# Altium integrated library Microchip PIC16 Part 2.IntLib: 1569 symbols (part 50 of 56)
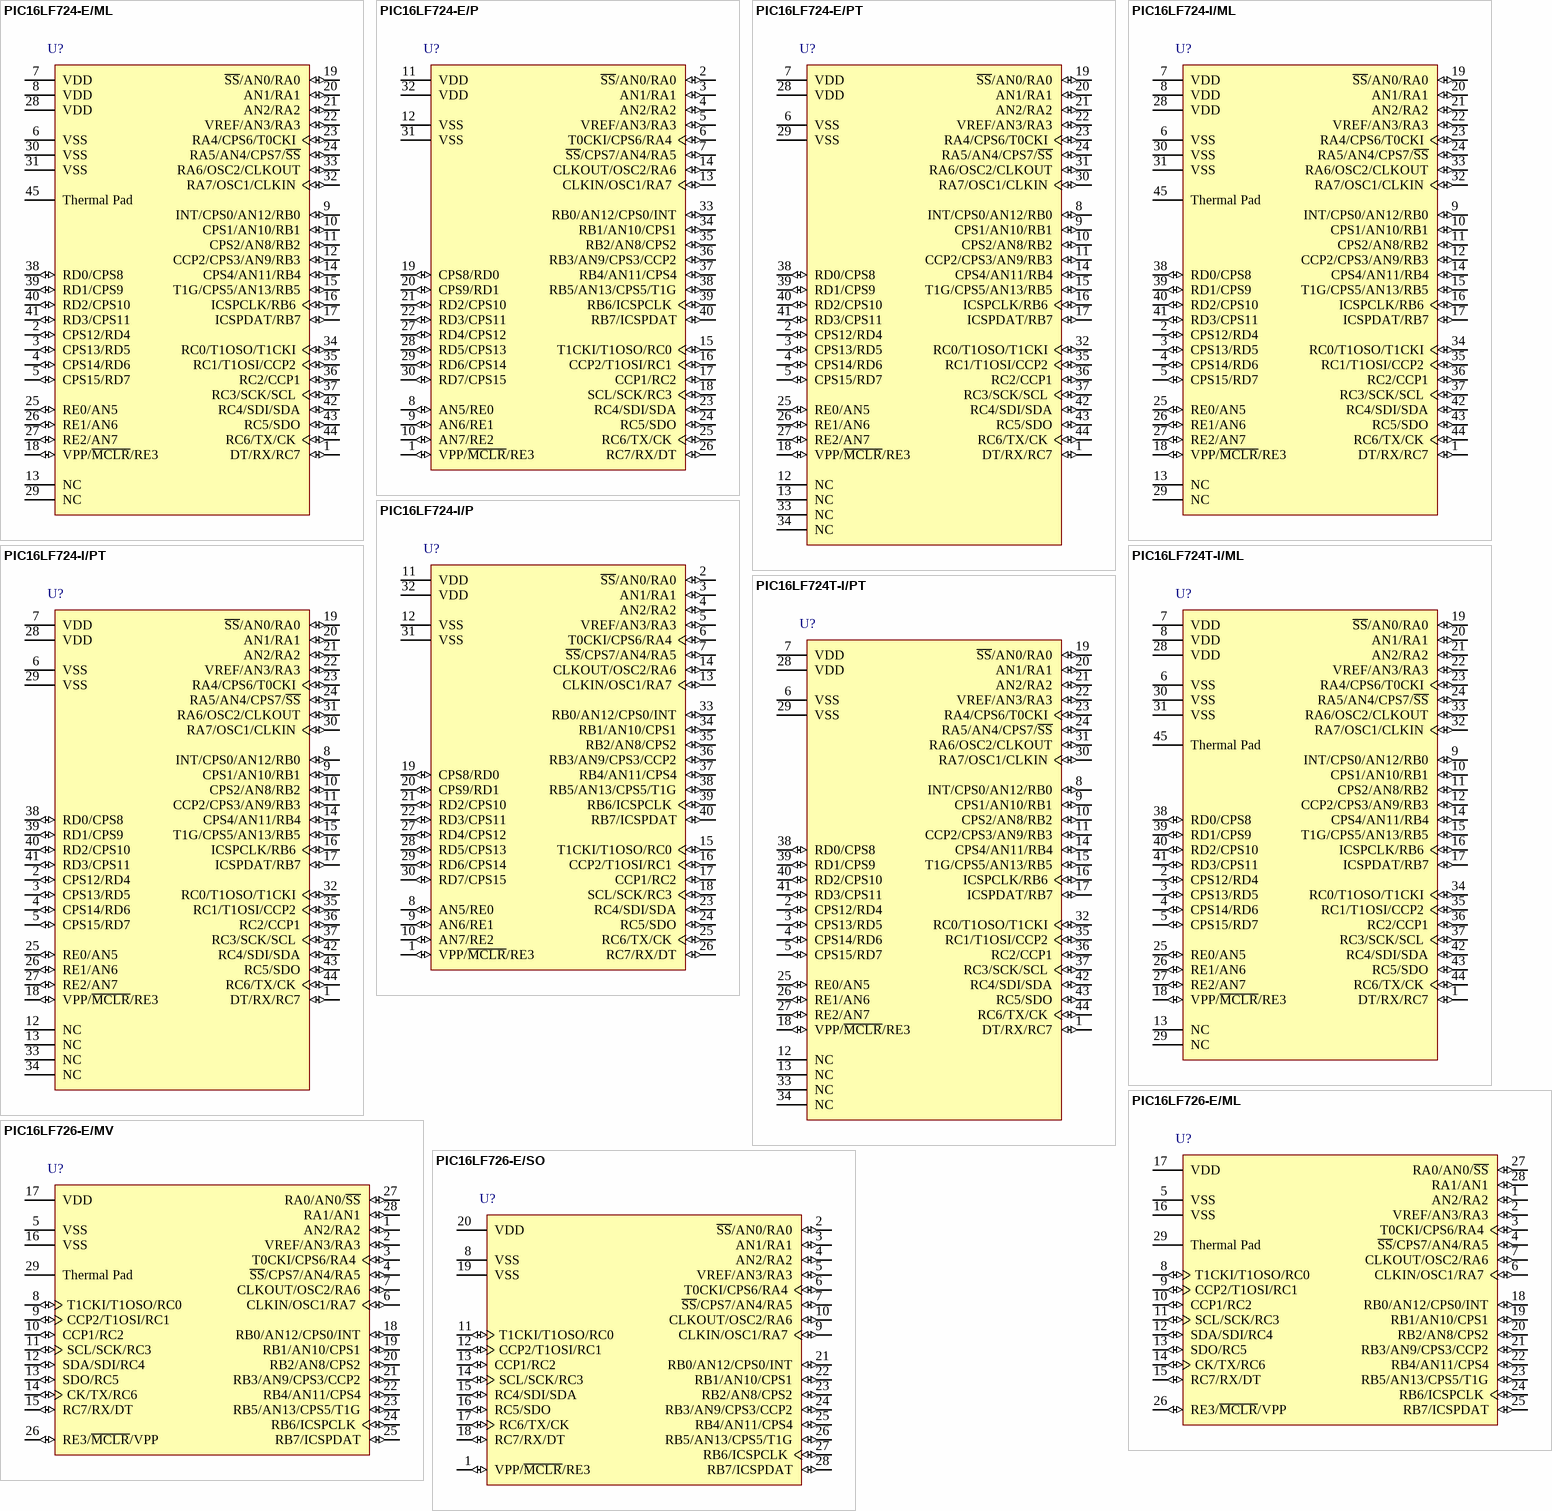
[diagram p174: symbols PIC16LF724-E/ML to PIC16LF726-E/SO]

## PIC16LF724T-I/PT
designator U?
Flash-Based, 8-Bit CMOS Microcontroller, 4K (x14-Bit words) Program Memory, 192 Bytes Data Memory, 36 I/O pins, 44-Pin TQFP, Extended VDD Range, Industrial Temperature, Tape and Reel; Manufacturer: Microchip; PartNumber: PIC16LF724T-I/PT; DatasheetVersion: revE, Oct-2009; PackageVersion: revBB, Aug-2009; PackageReference: TQFP-PT44; PackageDescription: 44-Lead Plastic Thin Quad Flatpack (PT) - 10x10x1mm Body, 2.00mm [TQFP]; Supplier 1: Digi-Key; Supplier Part Number 1: PIC16LF724T-I/PT-ND; Supplier 2: Mouser; Supplier Part Number 2: 579-PIC16LF724T-I/PT; Code_JEDEC: MS-026; ComponentLink1Description: Manufacturer URL; ComponentLink1URL: http://www.microchip.com/; ComponentLink2Description: Datasheet; ComponentLink2URL: http://ww1.microchip.com/downloads/en/DeviceDoc/41341E.pdf; ComponentLink3Description: Package Specification; ComponentLink3URL: http://www.microchip.com/stellent/groups/techpub_sg/documents/packagingspec/en012702.pdf
footprint TQFP-PT44_N (Thin QFP, 44-Leads, Body 10x10mm, Pitch 0.8mm, IPC Medium Density)
footprint TQFP-PT44_L (Thin QFP, 44-Leads, Body 10x10mm, Pitch 0.8mm, IPC High Density)
footprint TQFP-PT44_M (Thin QFP, 44-Leads, Body 10x10mm, Pitch 0.8mm, IPC Low Density)
pins: 1 DT/RX/RC7 (io), 2 CPS12/RD4 (io), 3 CPS13/RD5 (io), 4 CPS14/RD6 (io), 5 CPS15/RD7 (io), 6 VSS (power), 7 VDD (power), 8 INT/CPS0/AN12/RB0 (io), 9 CPS1/AN10/RB1 (io), 10 CPS2/AN8/RB2 (io), 11 CCP2/CPS3/AN9/RB3 (io), 12 NC, 13 NC, 14 CPS4/AN11/RB4 (io), 15 T1G/CPS5/AN13/RB5 (io), 16 ICSPCLK/RB6 (io), 17 ICSPDAT/RB7 (io), 18 VPP/~{MCLR}/RE3 (io), 19 ~{SS}/AN0/RA0 (io), 20 AN1/RA1 (io), 21 AN2/RA2 (io), 22 VREF/AN3/RA3 (io), 23 RA4/CPS6/T0CKI (io), 24 RA5/AN4/CPS7/~{SS} (io), 25 RE0/AN5 (io), 26 RE1/AN6 (io), 27 RE2/AN7 (io), 28 VDD (power), 29 VSS (power), 30 RA7/OSC1/CLKIN (io), 31 RA6/OSC2/CLKOUT (io), 32 RC0/T1OSO/T1CKI (io), 33 NC, 34 NC, 35 RC1/T1OSI/CCP2 (io), 36 RC2/CCP1 (io), 37 RC3/SCK/SCL (io), 38 RD0/CPS8 (io), 39 RD1/CPS9 (io), 40 RD2/CPS10 (io), 41 RD3/CPS11 (io), 42 RC4/SDI/SDA (io), 43 RC5/SDO (io), 44 RC6/TX/CK (io)

## PIC16LF726-E/ML
designator U?
Flash-Based, 8-Bit CMOS Microcontroller, 8K (x14-Bit words) Program Memory, 368 Bytes Data Memory, 25 I/O pins, 28-Pin QFN, Extended VDD Range, Extended Temperature; Manufacturer: Microchip; PartNumber: PIC16LF726-E/ML; DatasheetVersion: revE, Oct-2009; PackageVersion: revBB, Aug-2009; PackageReference: QFN-ML28; PackageDescription: 28-Lead Plastic Quad Flat, No Lead Package (ML) - 6x6 mm Body [QFN] with 0.55 mm Contact Length; Supplier 1: Digi-Key; Supplier Part Number 1: PIC16LF726-E/ML-ND; Supplier 2: Mouser; Supplier Part Number 2: 579-PIC16LF726-E/ML; Code_JEDEC: MO-220; ComponentLink1Description: Manufacturer URL; ComponentLink1URL: http://www.microchip.com/; ComponentLink2Description: Datasheet; ComponentLink2URL: http://ww1.microchip.com/downloads/en/DeviceDoc/41341E.pdf; ComponentLink3Description: Package Specification; ComponentLink3URL: http://www.microchip.com/stellent/groups/techpub_sg/documents/packagingspec/en012702.pdf
footprint QFN-ML28_N (QFN, 28-Leads, Body 6x6mm, Pitch 0.65mm, Thermal Pad 4.2x4.2mm, IPC Medium Density)
footprint QFN-ML28_L (QFN, 28-Leads, Body 6x6mm, Pitch 0.65mm, Thermal Pad 4.2x4.2mm, IPC High Density)
footprint QFN-ML28_M (QFN, 28-Leads, Body 6x6mm, Pitch 0.65mm, Thermal Pad 4.2x4.2mm, IPC Low Density)
pins: 1 AN2/RA2 (io), 2 VREF/AN3/RA3 (io), 3 T0CKI/CPS6/RA4 (io), 4 ~{SS}/CPS7/AN4/RA5 (io), 5 VSS (power), 6 CLKIN/OSC1/RA7 (io), 7 CLKOUT/OSC2/RA6 (io), 8 T1CKI/T1OSO/RC0 (io), 9 CCP2/T1OSI/RC1 (io), 10 CCP1/RC2 (io), 11 SCL/SCK/RC3 (io), 12 SDA/SDI/RC4 (io), 13 SDO/RC5 (io), 14 CK/TX/RC6 (io), 15 RC7/RX/DT (io), 16 VSS (power), 17 VDD (power), 18 RB0/AN12/CPS0/INT (io), 19 RB1/AN10/CPS1 (io), 20 RB2/AN8/CPS2 (io), 21 RB3/AN9/CPS3/CCP2 (io), 22 RB4/AN11/CPS4 (io), 23 RB5/AN13/CPS5/T1G (io), 24 RB6/ICSPCLK (io), 25 RB7/ICSPDAT (io), 26 RE3/~{MCLR}/VPP (io), 27 RA0/AN0/~{SS} (io), 28 RA1/AN1 (io), 29 Thermal Pad

## PIC16LF726-E/MV
designator U?
Flash-Based, 8-Bit CMOS Microcontroller, 8K (x14-Bit words) Program Memory, 368 Bytes Data Memory, 25 I/O pins, 28-Pin UQFN, Extended VDD Range, Extended Temperature; Manufacturer: Microchip; PartNumber: PIC16LF726-E/MV; DatasheetVersion: revE, Oct-2009; PackageVersion: revBB, Aug-2009; PackageReference: UQFN-MV28; PackageDescription: 28-Lead Plastic Ultra Thin Quad Flat, No Lead Package (MV) - 4x4x0.5 mm Body [UQFN]; ComponentLink1Description: Manufacturer URL; ComponentLink1URL: http://www.microchip.com/; ComponentLink2Description: Datasheet; ComponentLink2URL: http://ww1.microchip.com/downloads/en/DeviceDoc/41341E.pdf; ComponentLink3Description: Package Specification; ComponentLink3URL: http://www.microchip.com/stellent/groups/techpub_sg/documents/packagingspec/en012702.pdf
footprint UQFN-MV28_N (QFN, 28-Leads, Body 4x4mm, Pitch 0.4mm, Thermal Pad 2.7x2.7mm, IPC Medium Density)
footprint UQFN-MV28_L (QFN, 28-Leads, Body 4x4mm, Pitch 0.4mm, Thermal Pad 2.7x2.7mm, IPC High Density)
footprint UQFN-MV28_M (QFN, 28-Leads, Body 4x4mm, Pitch 0.4mm, Thermal Pad 2.7x2.7mm, IPC Low Density)
pins: 1 AN2/RA2 (io), 2 VREF/AN3/RA3 (io), 3 T0CKI/CPS6/RA4 (io), 4 ~{SS}/CPS7/AN4/RA5 (io), 5 VSS (power), 6 CLKIN/OSC1/RA7 (io), 7 CLKOUT/OSC2/RA6 (io), 8 T1CKI/T1OSO/RC0 (io), 9 CCP2/T1OSI/RC1 (io), 10 CCP1/RC2 (io), 11 SCL/SCK/RC3 (io), 12 SDA/SDI/RC4 (io), 13 SDO/RC5 (io), 14 CK/TX/RC6 (io), 15 RC7/RX/DT (io), 16 VSS (power), 17 VDD (power), 18 RB0/AN12/CPS0/INT (io), 19 RB1/AN10/CPS1 (io), 20 RB2/AN8/CPS2 (io), 21 RB3/AN9/CPS3/CCP2 (io), 22 RB4/AN11/CPS4 (io), 23 RB5/AN13/CPS5/T1G (io), 24 RB6/ICSPCLK (io), 25 RB7/ICSPDAT (io), 26 RE3/~{MCLR}/VPP (io), 27 RA0/AN0/~{SS} (io), 28 RA1/AN1 (io), 29 Thermal Pad

## PIC16LF726-E/SO
designator U?
Flash-Based, 8-Bit CMOS Microcontroller, 8K (x14-Bit words) Program Memory, 368 Bytes Data Memory, 25 I/O pins, 28-Pin SOIC, Extended VDD Range, Extended Temperature; Manufacturer: Microchip; PartNumber: PIC16LF726-E/SO; DatasheetVersion: revE, Oct-2009; PackageVersion: revBB, Aug-2009; PackageReference: SOIC-SO28; PackageDescription: 28-Lead Plastic Small Outline (SO) - Wide 7.50mm Body [SOIC]; Supplier 1: Digi-Key; Supplier Part Number 1: PIC16LF726-E/SO-ND; Supplier 2: Mouser; Supplier Part Number 2: 579-PIC16LF726-E/SO; Code_JEDEC: MS-013; ComponentLink1Description: Manufacturer URL; ComponentLink1URL: http://www.microchip.com/; ComponentLink2Description: Datasheet; ComponentLink2URL: http://ww1.microchip.com/downloads/en/DeviceDoc/41341E.pdf; ComponentLink3Description: Package Specification; ComponentLink3URL: http://www.microchip.com/stellent/groups/techpub_sg/documents/packagingspec/en012702.pdf
footprint SOIC-SO28_N (SOIC, 28-Leads, Body 17.9x7.5mm, Pitch 1.27mm, IPC Medium Density)
footprint SOIC-SO28_L (SOIC, 28-Leads, Body 17.9x7.5mm, Pitch 1.27mm, IPC High Density)
footprint SOIC-SO28_M (SOIC, 28-Leads, Body 17.9x7.5mm, Pitch 1.27mm, IPC Low Density)
pins: 1 VPP/~{MCLR}/RE3 (io), 2 ~{SS}/AN0/RA0 (io), 3 AN1/RA1 (io), 4 AN2/RA2 (io), 5 VREF/AN3/RA3 (io), 6 T0CKI/CPS6/RA4 (io), 7 ~{SS}/CPS7/AN4/RA5 (io), 8 VSS (power), 9 CLKIN/OSC1/RA7 (io), 10 CLKOUT/OSC2/RA6 (io), 11 T1CKI/T1OSO/RC0 (io), 12 CCP2/T1OSI/RC1 (io), 13 CCP1/RC2 (io), 14 SCL/SCK/RC3 (io), 15 RC4/SDI/SDA (io), 16 RC5/SDO (io), 17 RC6/TX/CK (io), 18 RC7/RX/DT (io), 19 VSS (power), 20 VDD (power), 21 RB0/AN12/CPS0/INT (io), 22 RB1/AN10/CPS1 (io), 23 RB2/AN8/CPS2 (io), 24 RB3/AN9/CPS3/CCP2 (io), 25 RB4/AN11/CPS4 (io), 26 RB5/AN13/CPS5/T1G (io), 27 RB6/ICSPCLK (io), 28 RB7/ICSPDAT (io)

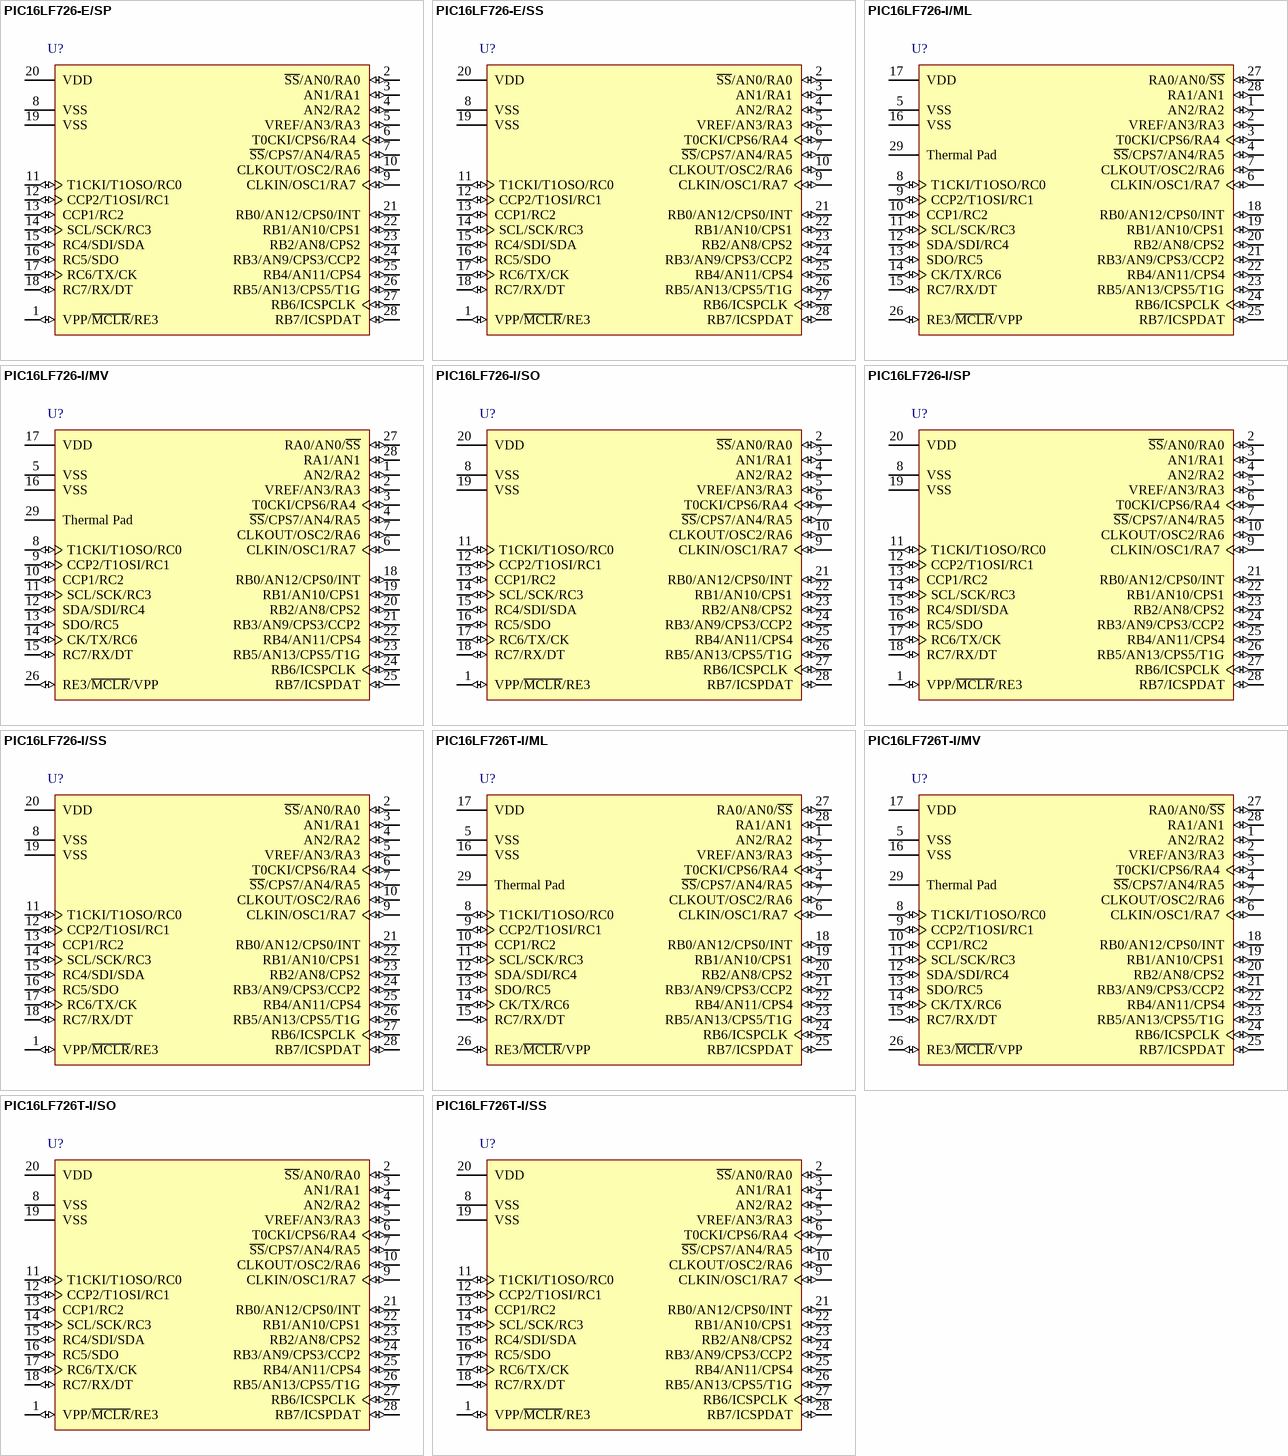
[diagram p107: symbols PIC16LF726-E/SP to PIC16LF726T-I/SS]

## PIC16LF726-E/SP
designator U?
Flash-Based, 8-Bit CMOS Microcontroller, 8K (x14-Bit words) Program Memory, 368 Bytes Data Memory, 25 I/O pins, 28-Pin SPDIP, Extended VDD Range, Extended Temperature; Manufacturer: Microchip; PartNumber: PIC16LF726-E/SP; DatasheetVersion: revE, Oct-2009; PackageVersion: revBB, Aug-2009; PackageReference: SPDIP300-SP28; PackageDescription: 28-Lead Skinny Plastic Dual In-Line (SP) - 300 mil Body [SPDIP]; Supplier 1: Digi-Key; Supplier Part Number 1: PIC16LF726-E/SP-ND; Supplier 2: Mouser; Supplier Part Number 2: 579-PIC16LF726-E/SP; ComponentLink1Description: Manufacturer URL; ComponentLink1URL: http://www.microchip.com/; ComponentLink2Description: Datasheet; ComponentLink2URL: http://ww1.microchip.com/downloads/en/DeviceDoc/41341E.pdf; ComponentLink3Description: Package Specification; ComponentLink3URL: http://www.microchip.com/stellent/groups/techpub_sg/documents/packagingspec/en012702.pdf
footprint SPDIP300-SP28 (DIP, 28-Leads, Row Spacing 7.62mm, Pitch 2.54mm, Body 34.9x6.8mm)
pins: 1 VPP/~{MCLR}/RE3 (io), 2 ~{SS}/AN0/RA0 (io), 3 AN1/RA1 (io), 4 AN2/RA2 (io), 5 VREF/AN3/RA3 (io), 6 T0CKI/CPS6/RA4 (io), 7 ~{SS}/CPS7/AN4/RA5 (io), 8 VSS (power), 9 CLKIN/OSC1/RA7 (io), 10 CLKOUT/OSC2/RA6 (io), 11 T1CKI/T1OSO/RC0 (io), 12 CCP2/T1OSI/RC1 (io), 13 CCP1/RC2 (io), 14 SCL/SCK/RC3 (io), 15 RC4/SDI/SDA (io), 16 RC5/SDO (io), 17 RC6/TX/CK (io), 18 RC7/RX/DT (io), 19 VSS (power), 20 VDD (power), 21 RB0/AN12/CPS0/INT (io), 22 RB1/AN10/CPS1 (io), 23 RB2/AN8/CPS2 (io), 24 RB3/AN9/CPS3/CCP2 (io), 25 RB4/AN11/CPS4 (io), 26 RB5/AN13/CPS5/T1G (io), 27 RB6/ICSPCLK (io), 28 RB7/ICSPDAT (io)

## PIC16LF726-E/SS
designator U?
Flash-Based, 8-Bit CMOS Microcontroller, 8K (x14-Bit words) Program Memory, 368 Bytes Data Memory, 25 I/O pins, 28-Pin SSOP, Extended VDD Range, Extended Temperature; Manufacturer: Microchip; PartNumber: PIC16LF726-E/SS; DatasheetVersion: revE, Oct-2009; PackageVersion: revBB, Aug-2009; PackageReference: SSOP-SS28; PackageDescription: 28-Lead Plastic Shrink Small Outline (SS) - 5.3mm Body [SSOP]; Supplier 1: Digi-Key; Supplier Part Number 1: PIC16LF726-E/SS-ND; Supplier 2: Mouser; Supplier Part Number 2: 579-PIC16LF726-E/SS; Code_JEDEC: MS-150; ComponentLink1Description: Manufacturer URL; ComponentLink1URL: http://www.microchip.com/; ComponentLink2Description: Datasheet; ComponentLink2URL: http://ww1.microchip.com/downloads/en/DeviceDoc/41341E.pdf; ComponentLink3Description: Package Specification; ComponentLink3URL: http://www.microchip.com/stellent/groups/techpub_sg/documents/packagingspec/en012702.pdf
footprint SSOP-SS28_N (SOP, 28-Leads, Body 10.2x5.2mm, Pitch 0.65mm, IPC Medium Density)
footprint SSOP-SS28_L (SOP, 28-Leads, Body 10.2x5.2mm, Pitch 0.65mm, IPC High Density)
footprint SSOP-SS28_M (SOP, 28-Leads, Body 10.2x5.2mm, Pitch 0.65mm, IPC Low Density)
pins: 1 VPP/~{MCLR}/RE3 (io), 2 ~{SS}/AN0/RA0 (io), 3 AN1/RA1 (io), 4 AN2/RA2 (io), 5 VREF/AN3/RA3 (io), 6 T0CKI/CPS6/RA4 (io), 7 ~{SS}/CPS7/AN4/RA5 (io), 8 VSS (power), 9 CLKIN/OSC1/RA7 (io), 10 CLKOUT/OSC2/RA6 (io), 11 T1CKI/T1OSO/RC0 (io), 12 CCP2/T1OSI/RC1 (io), 13 CCP1/RC2 (io), 14 SCL/SCK/RC3 (io), 15 RC4/SDI/SDA (io), 16 RC5/SDO (io), 17 RC6/TX/CK (io), 18 RC7/RX/DT (io), 19 VSS (power), 20 VDD (power), 21 RB0/AN12/CPS0/INT (io), 22 RB1/AN10/CPS1 (io), 23 RB2/AN8/CPS2 (io), 24 RB3/AN9/CPS3/CCP2 (io), 25 RB4/AN11/CPS4 (io), 26 RB5/AN13/CPS5/T1G (io), 27 RB6/ICSPCLK (io), 28 RB7/ICSPDAT (io)

## PIC16LF726-I/ML
designator U?
Flash-Based, 8-Bit CMOS Microcontroller, 8K (x14-Bit words) Program Memory, 368 Bytes Data Memory, 25 I/O pins, 28-Pin QFN, Extended VDD Range, Industrial Temperature; Manufacturer: Microchip; PartNumber: PIC16LF726-I/ML; DatasheetVersion: revE, Oct-2009; PackageVersion: revBB, Aug-2009; PackageReference: QFN-ML28; PackageDescription: 28-Lead Plastic Quad Flat, No Lead Package (ML) - 6x6 mm Body [QFN] with 0.55 mm Contact Length; Supplier 1: Digi-Key; Supplier Part Number 1: PIC16LF726-I/ML-ND; Supplier 2: Farnell; Supplier Part Number 2: 1770678; Supplier 3: Mouser; Supplier Part Number 3: 579-PIC16LF726-I/ML; Code_JEDEC: MO-220; ComponentLink1Description: Manufacturer URL; ComponentLink1URL: http://www.microchip.com/; ComponentLink2Description: Datasheet; ComponentLink2URL: http://ww1.microchip.com/downloads/en/DeviceDoc/41341E.pdf; ComponentLink3Description: Package Specification; ComponentLink3URL: http://www.microchip.com/stellent/groups/techpub_sg/documents/packagingspec/en012702.pdf
footprint QFN-ML28_N (QFN, 28-Leads, Body 6x6mm, Pitch 0.65mm, Thermal Pad 4.2x4.2mm, IPC Medium Density)
footprint QFN-ML28_L (QFN, 28-Leads, Body 6x6mm, Pitch 0.65mm, Thermal Pad 4.2x4.2mm, IPC High Density)
footprint QFN-ML28_M (QFN, 28-Leads, Body 6x6mm, Pitch 0.65mm, Thermal Pad 4.2x4.2mm, IPC Low Density)
pins: 1 AN2/RA2 (io), 2 VREF/AN3/RA3 (io), 3 T0CKI/CPS6/RA4 (io), 4 ~{SS}/CPS7/AN4/RA5 (io), 5 VSS (power), 6 CLKIN/OSC1/RA7 (io), 7 CLKOUT/OSC2/RA6 (io), 8 T1CKI/T1OSO/RC0 (io), 9 CCP2/T1OSI/RC1 (io), 10 CCP1/RC2 (io), 11 SCL/SCK/RC3 (io), 12 SDA/SDI/RC4 (io), 13 SDO/RC5 (io), 14 CK/TX/RC6 (io), 15 RC7/RX/DT (io), 16 VSS (power), 17 VDD (power), 18 RB0/AN12/CPS0/INT (io), 19 RB1/AN10/CPS1 (io), 20 RB2/AN8/CPS2 (io), 21 RB3/AN9/CPS3/CCP2 (io), 22 RB4/AN11/CPS4 (io), 23 RB5/AN13/CPS5/T1G (io), 24 RB6/ICSPCLK (io), 25 RB7/ICSPDAT (io), 26 RE3/~{MCLR}/VPP (io), 27 RA0/AN0/~{SS} (io), 28 RA1/AN1 (io), 29 Thermal Pad

## PIC16LF726-I/MV
designator U?
Flash-Based, 8-Bit CMOS Microcontroller, 8K (x14-Bit words) Program Memory, 368 Bytes Data Memory, 25 I/O pins, 28-Pin UQFN, Extended VDD Range, Industrial Temperature; Manufacturer: Microchip; PartNumber: PIC16LF726-I/MV; DatasheetVersion: revE, Oct-2009; PackageVersion: revBB, Aug-2009; PackageReference: UQFN-MV28; PackageDescription: 28-Lead Plastic Ultra Thin Quad Flat, No Lead Package (MV) - 4x4x0.5 mm Body [UQFN]; ComponentLink1Description: Manufacturer URL; ComponentLink1URL: http://www.microchip.com/; ComponentLink2Description: Datasheet; ComponentLink2URL: http://ww1.microchip.com/downloads/en/DeviceDoc/41341E.pdf; ComponentLink3Description: Package Specification; ComponentLink3URL: http://www.microchip.com/stellent/groups/techpub_sg/documents/packagingspec/en012702.pdf
footprint UQFN-MV28_N (QFN, 28-Leads, Body 4x4mm, Pitch 0.4mm, Thermal Pad 2.7x2.7mm, IPC Medium Density)
footprint UQFN-MV28_L (QFN, 28-Leads, Body 4x4mm, Pitch 0.4mm, Thermal Pad 2.7x2.7mm, IPC High Density)
footprint UQFN-MV28_M (QFN, 28-Leads, Body 4x4mm, Pitch 0.4mm, Thermal Pad 2.7x2.7mm, IPC Low Density)
pins: 1 AN2/RA2 (io), 2 VREF/AN3/RA3 (io), 3 T0CKI/CPS6/RA4 (io), 4 ~{SS}/CPS7/AN4/RA5 (io), 5 VSS (power), 6 CLKIN/OSC1/RA7 (io), 7 CLKOUT/OSC2/RA6 (io), 8 T1CKI/T1OSO/RC0 (io), 9 CCP2/T1OSI/RC1 (io), 10 CCP1/RC2 (io), 11 SCL/SCK/RC3 (io), 12 SDA/SDI/RC4 (io), 13 SDO/RC5 (io), 14 CK/TX/RC6 (io), 15 RC7/RX/DT (io), 16 VSS (power), 17 VDD (power), 18 RB0/AN12/CPS0/INT (io), 19 RB1/AN10/CPS1 (io), 20 RB2/AN8/CPS2 (io), 21 RB3/AN9/CPS3/CCP2 (io), 22 RB4/AN11/CPS4 (io), 23 RB5/AN13/CPS5/T1G (io), 24 RB6/ICSPCLK (io), 25 RB7/ICSPDAT (io), 26 RE3/~{MCLR}/VPP (io), 27 RA0/AN0/~{SS} (io), 28 RA1/AN1 (io), 29 Thermal Pad

## PIC16LF726-I/SO
designator U?
Flash-Based, 8-Bit CMOS Microcontroller, 8K (x14-Bit words) Program Memory, 368 Bytes Data Memory, 25 I/O pins, 28-Pin SOIC, Extended VDD Range, Industrial Temperature; Manufacturer: Microchip; PartNumber: PIC16LF726-I/SO; DatasheetVersion: revE, Oct-2009; PackageVersion: revBB, Aug-2009; PackageReference: SOIC-SO28; PackageDescription: 28-Lead Plastic Small Outline (SO) - Wide 7.50mm Body [SOIC]; Supplier 1: Digi-Key; Supplier Part Number 1: PIC16LF726-I/SO-ND; Supplier 2: Farnell; Supplier Part Number 2: 1770679; Supplier 3: Newark; Supplier Part Number 3: 07P9645; Supplier 4: Mouser; Supplier Part Number 4: 579-PIC16LF726-I/SO; Code_JEDEC: MS-013; ComponentLink1Description: Manufacturer URL; ComponentLink1URL: http://www.microchip.com/; ComponentLink2Description: Datasheet; ComponentLink2URL: http://ww1.microchip.com/downloads/en/DeviceDoc/41341E.pdf; ComponentLink3Description: Package Specification; ComponentLink3URL: http://www.microchip.com/stellent/groups/techpub_sg/documents/packagingspec/en012702.pdf
footprint SOIC-SO28_N (SOIC, 28-Leads, Body 17.9x7.5mm, Pitch 1.27mm, IPC Medium Density)
footprint SOIC-SO28_L (SOIC, 28-Leads, Body 17.9x7.5mm, Pitch 1.27mm, IPC High Density)
footprint SOIC-SO28_M (SOIC, 28-Leads, Body 17.9x7.5mm, Pitch 1.27mm, IPC Low Density)
pins: 1 VPP/~{MCLR}/RE3 (io), 2 ~{SS}/AN0/RA0 (io), 3 AN1/RA1 (io), 4 AN2/RA2 (io), 5 VREF/AN3/RA3 (io), 6 T0CKI/CPS6/RA4 (io), 7 ~{SS}/CPS7/AN4/RA5 (io), 8 VSS (power), 9 CLKIN/OSC1/RA7 (io), 10 CLKOUT/OSC2/RA6 (io), 11 T1CKI/T1OSO/RC0 (io), 12 CCP2/T1OSI/RC1 (io), 13 CCP1/RC2 (io), 14 SCL/SCK/RC3 (io), 15 RC4/SDI/SDA (io), 16 RC5/SDO (io), 17 RC6/TX/CK (io), 18 RC7/RX/DT (io), 19 VSS (power), 20 VDD (power), 21 RB0/AN12/CPS0/INT (io), 22 RB1/AN10/CPS1 (io), 23 RB2/AN8/CPS2 (io), 24 RB3/AN9/CPS3/CCP2 (io), 25 RB4/AN11/CPS4 (io), 26 RB5/AN13/CPS5/T1G (io), 27 RB6/ICSPCLK (io), 28 RB7/ICSPDAT (io)

## PIC16LF726-I/SP
designator U?
Flash-Based, 8-Bit CMOS Microcontroller, 8K (x14-Bit words) Program Memory, 368 Bytes Data Memory, 25 I/O pins, 28-Pin SPDIP, Extended VDD Range, Industrial Temperature; Manufacturer: Microchip; PartNumber: PIC16LF726-I/SP; DatasheetVersion: revE, Oct-2009; PackageVersion: revBB, Aug-2009; PackageReference: SPDIP300-SP28; PackageDescription: 28-Lead Skinny Plastic Dual In-Line (SP) - 300 mil Body [SPDIP]; Supplier 1: Digi-Key; Supplier Part Number 1: PIC16LF726-I/SP-ND; Supplier 2: Newark; Supplier Part Number 2: 07P9646; Supplier 3: Mouser; Supplier Part Number 3: 579-PIC16LF726-I/SP; ComponentLink1Description: Manufacturer URL; ComponentLink1URL: http://www.microchip.com/; ComponentLink2Description: Datasheet; ComponentLink2URL: http://ww1.microchip.com/downloads/en/DeviceDoc/41341E.pdf; ComponentLink3Description: Package Specification; ComponentLink3URL: http://www.microchip.com/stellent/groups/techpub_sg/documents/packagingspec/en012702.pdf
footprint SPDIP300-SP28 (DIP, 28-Leads, Row Spacing 7.62mm, Pitch 2.54mm, Body 34.9x6.8mm)
pins: 1 VPP/~{MCLR}/RE3 (io), 2 ~{SS}/AN0/RA0 (io), 3 AN1/RA1 (io), 4 AN2/RA2 (io), 5 VREF/AN3/RA3 (io), 6 T0CKI/CPS6/RA4 (io), 7 ~{SS}/CPS7/AN4/RA5 (io), 8 VSS (power), 9 CLKIN/OSC1/RA7 (io), 10 CLKOUT/OSC2/RA6 (io), 11 T1CKI/T1OSO/RC0 (io), 12 CCP2/T1OSI/RC1 (io), 13 CCP1/RC2 (io), 14 SCL/SCK/RC3 (io), 15 RC4/SDI/SDA (io), 16 RC5/SDO (io), 17 RC6/TX/CK (io), 18 RC7/RX/DT (io), 19 VSS (power), 20 VDD (power), 21 RB0/AN12/CPS0/INT (io), 22 RB1/AN10/CPS1 (io), 23 RB2/AN8/CPS2 (io), 24 RB3/AN9/CPS3/CCP2 (io), 25 RB4/AN11/CPS4 (io), 26 RB5/AN13/CPS5/T1G (io), 27 RB6/ICSPCLK (io), 28 RB7/ICSPDAT (io)

## PIC16LF726-I/SS
designator U?
Flash-Based, 8-Bit CMOS Microcontroller, 8K (x14-Bit words) Program Memory, 368 Bytes Data Memory, 25 I/O pins, 28-Pin SSOP, Extended VDD Range, Industrial Temperature; Manufacturer: Microchip; PartNumber: PIC16LF726-I/SS; DatasheetVersion: revE, Oct-2009; PackageVersion: revBB, Aug-2009; PackageReference: SSOP-SS28; PackageDescription: 28-Lead Plastic Shrink Small Outline (SS) - 5.3mm Body [SSOP]; Supplier 1: Digi-Key; Supplier Part Number 1: PIC16LF726-I/SS-ND; Supplier 2: Farnell; Supplier Part Number 2: 1659767; Supplier 3: Newark; Supplier Part Number 3: 07P9647; Supplier 4: Mouser; Supplier Part Number 4: 579-PIC16LF726-I/SS; Code_JEDEC: MS-150; ComponentLink1Description: Manufacturer URL; ComponentLink1URL: http://www.microchip.com/; ComponentLink2Description: Datasheet; ComponentLink2URL: http://ww1.microchip.com/downloads/en/DeviceDoc/41341E.pdf; ComponentLink3Description: Package Specification; ComponentLink3URL: http://www.microchip.com/stellent/groups/techpub_sg/documents/packagingspec/en012702.pdf
footprint SSOP-SS28_N (SOP, 28-Leads, Body 10.2x5.2mm, Pitch 0.65mm, IPC Medium Density)
footprint SSOP-SS28_L (SOP, 28-Leads, Body 10.2x5.2mm, Pitch 0.65mm, IPC High Density)
footprint SSOP-SS28_M (SOP, 28-Leads, Body 10.2x5.2mm, Pitch 0.65mm, IPC Low Density)
pins: 1 VPP/~{MCLR}/RE3 (io), 2 ~{SS}/AN0/RA0 (io), 3 AN1/RA1 (io), 4 AN2/RA2 (io), 5 VREF/AN3/RA3 (io), 6 T0CKI/CPS6/RA4 (io), 7 ~{SS}/CPS7/AN4/RA5 (io), 8 VSS (power), 9 CLKIN/OSC1/RA7 (io), 10 CLKOUT/OSC2/RA6 (io), 11 T1CKI/T1OSO/RC0 (io), 12 CCP2/T1OSI/RC1 (io), 13 CCP1/RC2 (io), 14 SCL/SCK/RC3 (io), 15 RC4/SDI/SDA (io), 16 RC5/SDO (io), 17 RC6/TX/CK (io), 18 RC7/RX/DT (io), 19 VSS (power), 20 VDD (power), 21 RB0/AN12/CPS0/INT (io), 22 RB1/AN10/CPS1 (io), 23 RB2/AN8/CPS2 (io), 24 RB3/AN9/CPS3/CCP2 (io), 25 RB4/AN11/CPS4 (io), 26 RB5/AN13/CPS5/T1G (io), 27 RB6/ICSPCLK (io), 28 RB7/ICSPDAT (io)

## PIC16LF726T-I/ML
designator U?
Flash-Based, 8-Bit CMOS Microcontroller, 8K (x14-Bit words) Program Memory, 368 Bytes Data Memory, 25 I/O pins, 28-Pin QFN, Extended VDD Range, Industrial Temperature, Tape and Reel; Manufacturer: Microchip; PartNumber: PIC16LF726T-I/ML; DatasheetVersion: revE, Oct-2009; PackageVersion: revBB, Aug-2009; PackageReference: QFN-ML28; PackageDescription: 28-Lead Plastic Quad Flat, No Lead Package (ML) - 6x6 mm Body [QFN] with 0.55 mm Contact Length; Supplier 1: Digi-Key; Supplier Part Number 1: PIC16LF726T-I/ML-ND; Supplier 2: Mouser; Supplier Part Number 2: 579-PIC16LF726T-I/ML; Code_JEDEC: MO-220; ComponentLink1Description: Manufacturer URL; ComponentLink1URL: http://www.microchip.com/; ComponentLink2Description: Datasheet; ComponentLink2URL: http://ww1.microchip.com/downloads/en/DeviceDoc/41341E.pdf; ComponentLink3Description: Package Specification; ComponentLink3URL: http://www.microchip.com/stellent/groups/techpub_sg/documents/packagingspec/en012702.pdf
footprint QFN-ML28_N (QFN, 28-Leads, Body 6x6mm, Pitch 0.65mm, Thermal Pad 4.2x4.2mm, IPC Medium Density)
footprint QFN-ML28_L (QFN, 28-Leads, Body 6x6mm, Pitch 0.65mm, Thermal Pad 4.2x4.2mm, IPC High Density)
footprint QFN-ML28_M (QFN, 28-Leads, Body 6x6mm, Pitch 0.65mm, Thermal Pad 4.2x4.2mm, IPC Low Density)
pins: 1 AN2/RA2 (io), 2 VREF/AN3/RA3 (io), 3 T0CKI/CPS6/RA4 (io), 4 ~{SS}/CPS7/AN4/RA5 (io), 5 VSS (power), 6 CLKIN/OSC1/RA7 (io), 7 CLKOUT/OSC2/RA6 (io), 8 T1CKI/T1OSO/RC0 (io), 9 CCP2/T1OSI/RC1 (io), 10 CCP1/RC2 (io), 11 SCL/SCK/RC3 (io), 12 SDA/SDI/RC4 (io), 13 SDO/RC5 (io), 14 CK/TX/RC6 (io), 15 RC7/RX/DT (io), 16 VSS (power), 17 VDD (power), 18 RB0/AN12/CPS0/INT (io), 19 RB1/AN10/CPS1 (io), 20 RB2/AN8/CPS2 (io), 21 RB3/AN9/CPS3/CCP2 (io), 22 RB4/AN11/CPS4 (io), 23 RB5/AN13/CPS5/T1G (io), 24 RB6/ICSPCLK (io), 25 RB7/ICSPDAT (io), 26 RE3/~{MCLR}/VPP (io), 27 RA0/AN0/~{SS} (io), 28 RA1/AN1 (io), 29 Thermal Pad

## PIC16LF726T-I/MV
designator U?
Flash-Based, 8-Bit CMOS Microcontroller, 8K (x14-Bit words) Program Memory, 368 Bytes Data Memory, 25 I/O pins, 28-Pin UQFN, Extended VDD Range, Industrial Temperature, Tape and Reel; Manufacturer: Microchip; PartNumber: PIC16LF726T-I/MV; DatasheetVersion: revE, Oct-2009; PackageVersion: revBB, Aug-2009; PackageReference: UQFN-MV28; PackageDescription: 28-Lead Plastic Ultra Thin Quad Flat, No Lead Package (MV) - 4x4x0.5 mm Body [UQFN]; ComponentLink1Description: Manufacturer URL; ComponentLink1URL: http://www.microchip.com/; ComponentLink2Description: Datasheet; ComponentLink2URL: http://ww1.microchip.com/downloads/en/DeviceDoc/41341E.pdf; ComponentLink3Description: Package Specification; ComponentLink3URL: http://www.microchip.com/stellent/groups/techpub_sg/documents/packagingspec/en012702.pdf
footprint UQFN-MV28_N (QFN, 28-Leads, Body 4x4mm, Pitch 0.4mm, Thermal Pad 2.7x2.7mm, IPC Medium Density)
footprint UQFN-MV28_L (QFN, 28-Leads, Body 4x4mm, Pitch 0.4mm, Thermal Pad 2.7x2.7mm, IPC High Density)
footprint UQFN-MV28_M (QFN, 28-Leads, Body 4x4mm, Pitch 0.4mm, Thermal Pad 2.7x2.7mm, IPC Low Density)
pins: 1 AN2/RA2 (io), 2 VREF/AN3/RA3 (io), 3 T0CKI/CPS6/RA4 (io), 4 ~{SS}/CPS7/AN4/RA5 (io), 5 VSS (power), 6 CLKIN/OSC1/RA7 (io), 7 CLKOUT/OSC2/RA6 (io), 8 T1CKI/T1OSO/RC0 (io), 9 CCP2/T1OSI/RC1 (io), 10 CCP1/RC2 (io), 11 SCL/SCK/RC3 (io), 12 SDA/SDI/RC4 (io), 13 SDO/RC5 (io), 14 CK/TX/RC6 (io), 15 RC7/RX/DT (io), 16 VSS (power), 17 VDD (power), 18 RB0/AN12/CPS0/INT (io), 19 RB1/AN10/CPS1 (io), 20 RB2/AN8/CPS2 (io), 21 RB3/AN9/CPS3/CCP2 (io), 22 RB4/AN11/CPS4 (io), 23 RB5/AN13/CPS5/T1G (io), 24 RB6/ICSPCLK (io), 25 RB7/ICSPDAT (io), 26 RE3/~{MCLR}/VPP (io), 27 RA0/AN0/~{SS} (io), 28 RA1/AN1 (io), 29 Thermal Pad

## PIC16LF726T-I/SO
designator U?
Flash-Based, 8-Bit CMOS Microcontroller, 8K (x14-Bit words) Program Memory, 368 Bytes Data Memory, 25 I/O pins, 28-Pin SOIC, Extended VDD Range, Industrial Temperature, Tape and Reel; Manufacturer: Microchip; PartNumber: PIC16LF726T-I/SO; DatasheetVersion: revE, Oct-2009; PackageVersion: revBB, Aug-2009; PackageReference: SOIC-SO28; PackageDescription: 28-Lead Plastic Small Outline (SO) - Wide 7.50mm Body [SOIC]; Supplier 1: Digi-Key; Supplier Part Number 1: PIC16LF726T-I/SO-ND; Supplier 2: Mouser; Supplier Part Number 2: 579-PIC16LF726T-I/SO; Code_JEDEC: MS-013; ComponentLink1Description: Manufacturer URL; ComponentLink1URL: http://www.microchip.com/; ComponentLink2Description: Datasheet; ComponentLink2URL: http://ww1.microchip.com/downloads/en/DeviceDoc/41341E.pdf; ComponentLink3Description: Package Specification; ComponentLink3URL: http://www.microchip.com/stellent/groups/techpub_sg/documents/packagingspec/en012702.pdf
footprint SOIC-SO28_N (SOIC, 28-Leads, Body 17.9x7.5mm, Pitch 1.27mm, IPC Medium Density)
footprint SOIC-SO28_L (SOIC, 28-Leads, Body 17.9x7.5mm, Pitch 1.27mm, IPC High Density)
footprint SOIC-SO28_M (SOIC, 28-Leads, Body 17.9x7.5mm, Pitch 1.27mm, IPC Low Density)
pins: 1 VPP/~{MCLR}/RE3 (io), 2 ~{SS}/AN0/RA0 (io), 3 AN1/RA1 (io), 4 AN2/RA2 (io), 5 VREF/AN3/RA3 (io), 6 T0CKI/CPS6/RA4 (io), 7 ~{SS}/CPS7/AN4/RA5 (io), 8 VSS (power), 9 CLKIN/OSC1/RA7 (io), 10 CLKOUT/OSC2/RA6 (io), 11 T1CKI/T1OSO/RC0 (io), 12 CCP2/T1OSI/RC1 (io), 13 CCP1/RC2 (io), 14 SCL/SCK/RC3 (io), 15 RC4/SDI/SDA (io), 16 RC5/SDO (io), 17 RC6/TX/CK (io), 18 RC7/RX/DT (io), 19 VSS (power), 20 VDD (power), 21 RB0/AN12/CPS0/INT (io), 22 RB1/AN10/CPS1 (io), 23 RB2/AN8/CPS2 (io), 24 RB3/AN9/CPS3/CCP2 (io), 25 RB4/AN11/CPS4 (io), 26 RB5/AN13/CPS5/T1G (io), 27 RB6/ICSPCLK (io), 28 RB7/ICSPDAT (io)

## PIC16LF726T-I/SS
designator U?
Flash-Based, 8-Bit CMOS Microcontroller, 8K (x14-Bit words) Program Memory, 368 Bytes Data Memory, 25 I/O pins, 28-Pin SSOP, Extended VDD Range, Industrial Temperature, Tape and Reel; Manufacturer: Microchip; PartNumber: PIC16LF726T-I/SS; DatasheetVersion: revE, Oct-2009; PackageVersion: revBB, Aug-2009; PackageReference: SSOP-SS28; PackageDescription: 28-Lead Plastic Shrink Small Outline (SS) - 5.3mm Body [SSOP]; Supplier 1: Digi-Key; Supplier Part Number 1: PIC16LF726T-I/SS-ND; Supplier 2: Mouser; Supplier Part Number 2: 579-PIC16LF726T-I/SS; Code_JEDEC: MS-150; ComponentLink1Description: Manufacturer URL; ComponentLink1URL: http://www.microchip.com/; ComponentLink2Description: Datasheet; ComponentLink2URL: http://ww1.microchip.com/downloads/en/DeviceDoc/41341E.pdf; ComponentLink3Description: Package Specification; ComponentLink3URL: http://www.microchip.com/stellent/groups/techpub_sg/documents/packagingspec/en012702.pdf
footprint SSOP-SS28_N (SOP, 28-Leads, Body 10.2x5.2mm, Pitch 0.65mm, IPC Medium Density)
footprint SSOP-SS28_L (SOP, 28-Leads, Body 10.2x5.2mm, Pitch 0.65mm, IPC High Density)
footprint SSOP-SS28_M (SOP, 28-Leads, Body 10.2x5.2mm, Pitch 0.65mm, IPC Low Density)
pins: 1 VPP/~{MCLR}/RE3 (io), 2 ~{SS}/AN0/RA0 (io), 3 AN1/RA1 (io), 4 AN2/RA2 (io), 5 VREF/AN3/RA3 (io), 6 T0CKI/CPS6/RA4 (io), 7 ~{SS}/CPS7/AN4/RA5 (io), 8 VSS (power), 9 CLKIN/OSC1/RA7 (io), 10 CLKOUT/OSC2/RA6 (io), 11 T1CKI/T1OSO/RC0 (io), 12 CCP2/T1OSI/RC1 (io), 13 CCP1/RC2 (io), 14 SCL/SCK/RC3 (io), 15 RC4/SDI/SDA (io), 16 RC5/SDO (io), 17 RC6/TX/CK (io), 18 RC7/RX/DT (io), 19 VSS (power), 20 VDD (power), 21 RB0/AN12/CPS0/INT (io), 22 RB1/AN10/CPS1 (io), 23 RB2/AN8/CPS2 (io), 24 RB3/AN9/CPS3/CCP2 (io), 25 RB4/AN11/CPS4 (io), 26 RB5/AN13/CPS5/T1G (io), 27 RB6/ICSPCLK (io), 28 RB7/ICSPDAT (io)

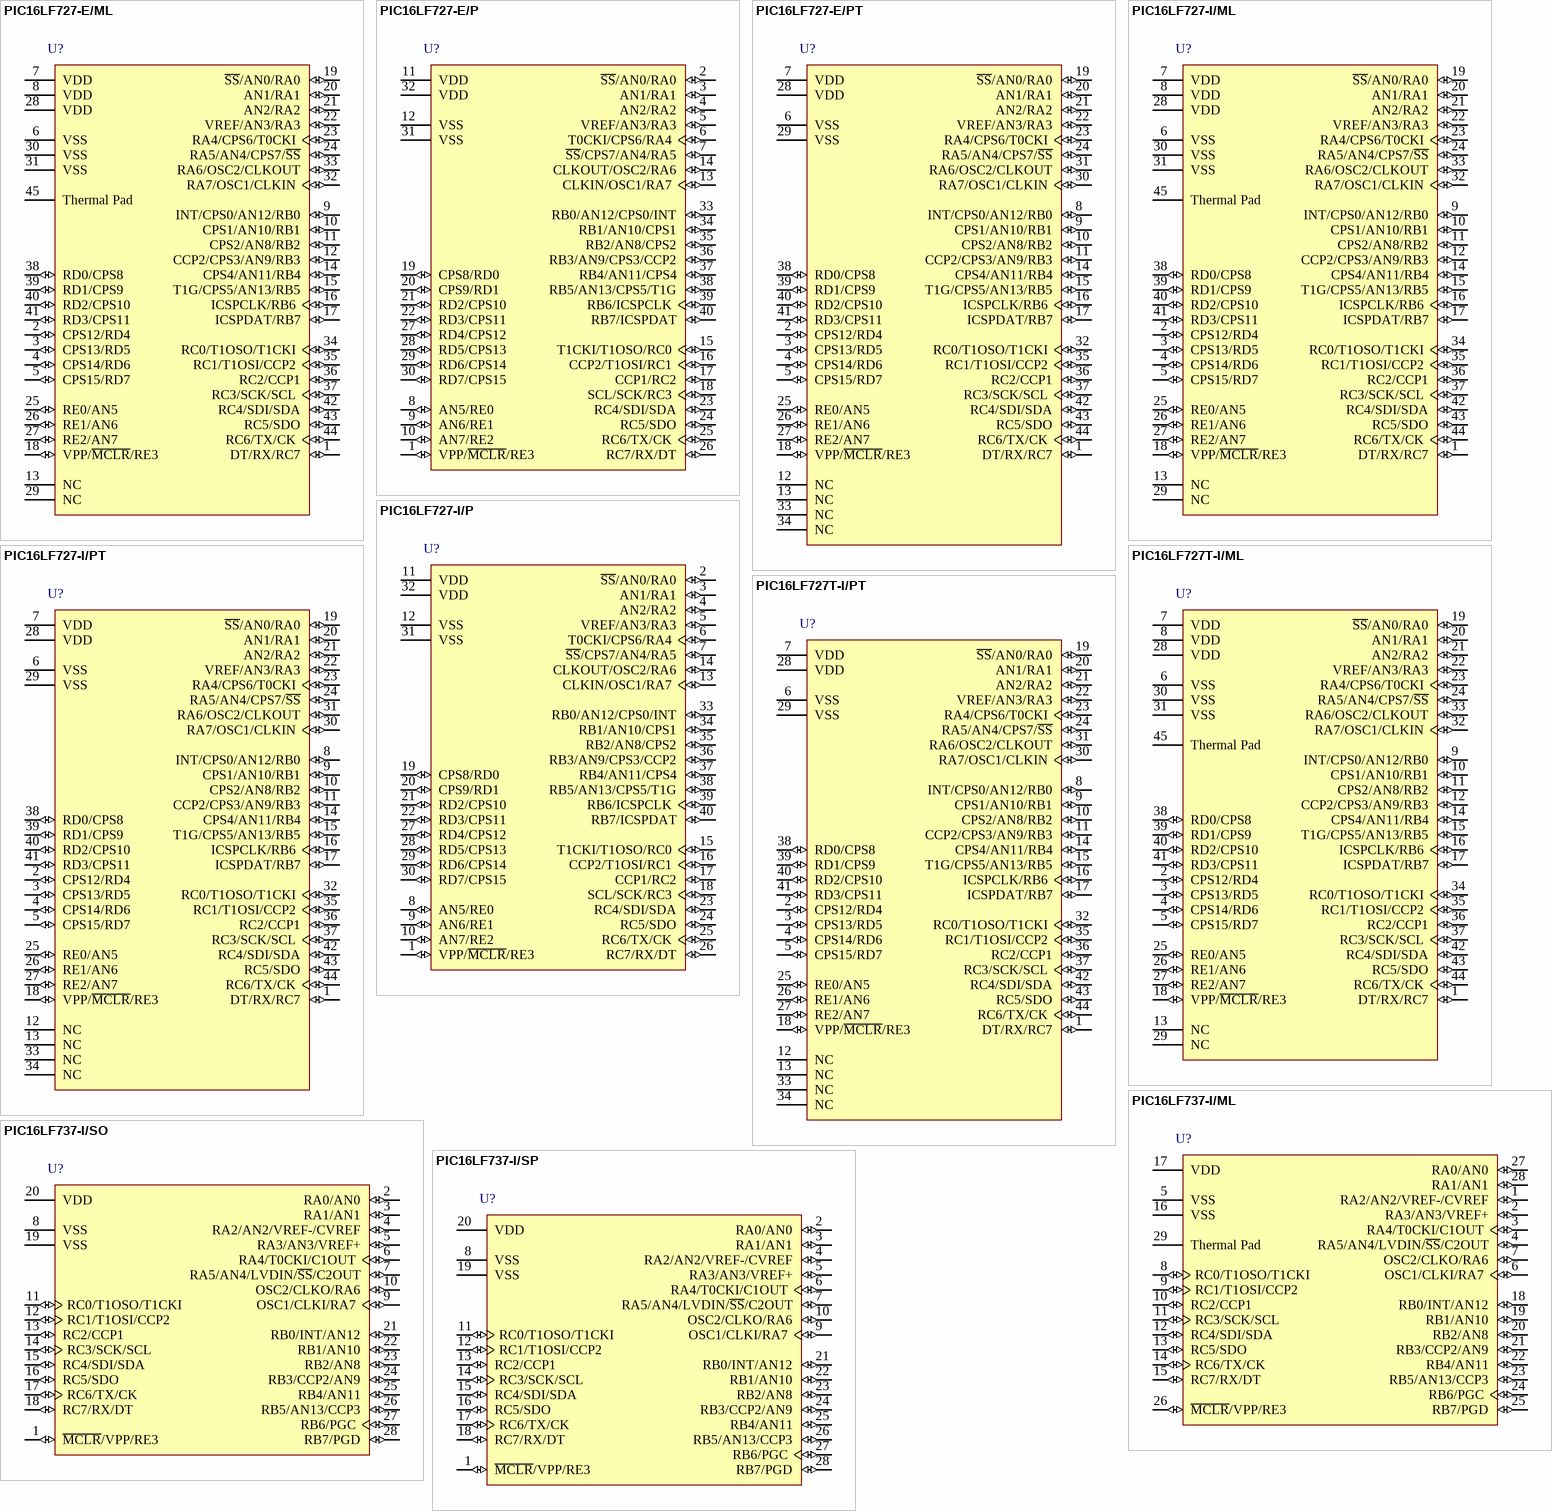
[diagram p108: symbols PIC16LF727-E/ML to PIC16LF737-I/SP]

## PIC16LF727-E/ML
designator U?
Flash-Based, 8-Bit CMOS Microcontroller, 8K (x14-Bit words) Program Memory, 368 Bytes Data Memory, 36 I/O pins, 44-Pin QFN, Extended VDD Range, Extended Temperature; Manufacturer: Microchip; PartNumber: PIC16LF727-E/ML; DatasheetVersion: revE, Oct-2009; PackageVersion: revBB, Aug-2009; PackageReference: QFN-ML44; PackageDescription: 44-Lead Plastic Quad Flat, No Lead Package (ML) - 8x8 mm Body [QFN]; Supplier 1: Digi-Key; Supplier Part Number 1: PIC16LF727-E/ML-ND; Supplier 2: Mouser; Supplier Part Number 2: 579-PIC16LF727-E/ML; Code_JEDEC: MO-220; Code_IPC: QFN65P800X800-44V2; ComponentLink1Description: Manufacturer URL; ComponentLink1URL: http://www.microchip.com/; ComponentLink2Description: Datasheet; ComponentLink2URL: http://ww1.microchip.com/downloads/en/DeviceDoc/41341E.pdf; ComponentLink3Description: Package Specification; ComponentLink3URL: http://www.microchip.com/stellent/groups/techpub_sg/documents/packagingspec/en012702.pdf
footprint QFN-ML44_N (QFN, 44-Leads, Body 8x8mm, Pitch 0.65mm, Thermal Pad 6.8x6.8mm, IPC Medium Density)
footprint QFN-ML44_L (QFN, 44-Leads, Body 8x8mm, Pitch 0.65mm, Thermal Pad 6.8x6.8mm, IPC High Density)
footprint QFN-ML44_M (QFN, 44-Leads, Body 8x8mm, Pitch 0.65mm, Thermal Pad 6.8x6.8mm, IPC Low Density)
pins: 1 DT/RX/RC7 (io), 2 CPS12/RD4 (io), 3 CPS13/RD5 (io), 4 CPS14/RD6 (io), 5 CPS15/RD7 (io), 6 VSS (power), 7 VDD (power), 8 VDD (power), 9 INT/CPS0/AN12/RB0 (io), 10 CPS1/AN10/RB1 (io), 11 CPS2/AN8/RB2 (io), 12 CCP2/CPS3/AN9/RB3 (io), 13 NC, 14 CPS4/AN11/RB4 (io), 15 T1G/CPS5/AN13/RB5 (io), 16 ICSPCLK/RB6 (io), 17 ICSPDAT/RB7 (io), 18 VPP/~{MCLR}/RE3 (io), 19 ~{SS}/AN0/RA0 (io), 20 AN1/RA1 (io), 21 AN2/RA2 (io), 22 VREF/AN3/RA3 (io), 23 RA4/CPS6/T0CKI (io), 24 RA5/AN4/CPS7/~{SS} (io), 25 RE0/AN5 (io), 26 RE1/AN6 (io), 27 RE2/AN7 (io), 28 VDD (power), 29 NC, 30 VSS (power), 31 VSS (power), 32 RA7/OSC1/CLKIN (io), 33 RA6/OSC2/CLKOUT (io), 34 RC0/T1OSO/T1CKI (io), 35 RC1/T1OSI/CCP2 (io), 36 RC2/CCP1 (io), 37 RC3/SCK/SCL (io), 38 RD0/CPS8 (io), 39 RD1/CPS9 (io), 40 RD2/CPS10 (io), 41 RD3/CPS11 (io), 42 RC4/SDI/SDA (io), 43 RC5/SDO (io), 44 RC6/TX/CK (io), 45 Thermal Pad

## PIC16LF727-E/P
designator U?
Flash-Based, 8-Bit CMOS Microcontroller, 8K (x14-Bit words) Program Memory, 368 Bytes Data Memory, 36 I/O pins, 40-Pin PDIP, Extended VDD Range, Extended Temperature; Manufacturer: Microchip; PartNumber: PIC16LF727-E/P; DatasheetVersion: revE, Oct-2009; PackageVersion: revBB, Aug-2009; PackageReference: PDIP600-P40; PackageDescription: 40-Lead Plastic Dual In-Line (P) - 600 mil Body [PDIP]; Supplier 1: Digi-Key; Supplier Part Number 1: PIC16LF727-E/P-ND; Supplier 2: Mouser; Supplier Part Number 2: 579-PIC16LF727-E/P; ComponentLink1Description: Manufacturer URL; ComponentLink1URL: http://www.microchip.com/; ComponentLink2Description: Datasheet; ComponentLink2URL: http://ww1.microchip.com/downloads/en/DeviceDoc/41341E.pdf; ComponentLink3Description: Package Specification; ComponentLink3URL: http://www.microchip.com/stellent/groups/techpub_sg/documents/packagingspec/en012702.pdf
footprint PDIP600-P40 (DIP, 40-Leads, Row Spacing 15.24mm, Pitch 2.54mm, Body 51.8x13.5mm)
pins: 1 VPP/~{MCLR}/RE3 (io), 2 ~{SS}/AN0/RA0 (io), 3 AN1/RA1 (io), 4 AN2/RA2 (io), 5 VREF/AN3/RA3 (io), 6 T0CKI/CPS6/RA4 (io), 7 ~{SS}/CPS7/AN4/RA5 (io), 8 AN5/RE0 (io), 9 AN6/RE1 (io), 10 AN7/RE2 (io), 11 VDD (power), 12 VSS (power), 13 CLKIN/OSC1/RA7 (io), 14 CLKOUT/OSC2/RA6 (io), 15 T1CKI/T1OSO/RC0 (io), 16 CCP2/T1OSI/RC1 (io), 17 CCP1/RC2 (io), 18 SCL/SCK/RC3 (io), 19 CPS8/RD0 (io), 20 CPS9/RD1 (io), 21 RD2/CPS10 (io), 22 RD3/CPS11 (io), 23 RC4/SDI/SDA (io), 24 RC5/SDO (io), 25 RC6/TX/CK (io), 26 RC7/RX/DT (io), 27 RD4/CPS12 (io), 28 RD5/CPS13 (io), 29 RD6/CPS14 (io), 30 RD7/CPS15 (io), 31 VSS (power), 32 VDD (power), 33 RB0/AN12/CPS0/INT (io), 34 RB1/AN10/CPS1 (io), 35 RB2/AN8/CPS2 (io), 36 RB3/AN9/CPS3/CCP2 (io), 37 RB4/AN11/CPS4 (io), 38 RB5/AN13/CPS5/T1G (io), 39 RB6/ICSPCLK (io), 40 RB7/ICSPDAT (io)

## PIC16LF727-E/PT
designator U?
Flash-Based, 8-Bit CMOS Microcontroller, 8K (x14-Bit words) Program Memory, 368 Bytes Data Memory, 36 I/O pins, 44-Pin TQFP, Extended VDD Range, Extended Temperature; Manufacturer: Microchip; PartNumber: PIC16LF727-E/PT; DatasheetVersion: revE, Oct-2009; PackageVersion: revBB, Aug-2009; PackageReference: TQFP-PT44; PackageDescription: 44-Lead Plastic Thin Quad Flatpack (PT) - 10x10x1mm Body, 2.00mm [TQFP]; Supplier 1: Digi-Key; Supplier Part Number 1: PIC16LF727-E/PT-ND; Supplier 2: Mouser; Supplier Part Number 2: 579-PIC16LF727-E/PT; Code_JEDEC: MS-026; ComponentLink1Description: Manufacturer URL; ComponentLink1URL: http://www.microchip.com/; ComponentLink2Description: Datasheet; ComponentLink2URL: http://ww1.microchip.com/downloads/en/DeviceDoc/41341E.pdf; ComponentLink3Description: Package Specification; ComponentLink3URL: http://www.microchip.com/stellent/groups/techpub_sg/documents/packagingspec/en012702.pdf
footprint TQFP-PT44_N (Thin QFP, 44-Leads, Body 10x10mm, Pitch 0.8mm, IPC Medium Density)
footprint TQFP-PT44_L (Thin QFP, 44-Leads, Body 10x10mm, Pitch 0.8mm, IPC High Density)
footprint TQFP-PT44_M (Thin QFP, 44-Leads, Body 10x10mm, Pitch 0.8mm, IPC Low Density)
pins: 1 DT/RX/RC7 (io), 2 CPS12/RD4 (io), 3 CPS13/RD5 (io), 4 CPS14/RD6 (io), 5 CPS15/RD7 (io), 6 VSS (power), 7 VDD (power), 8 INT/CPS0/AN12/RB0 (io), 9 CPS1/AN10/RB1 (io), 10 CPS2/AN8/RB2 (io), 11 CCP2/CPS3/AN9/RB3 (io), 12 NC, 13 NC, 14 CPS4/AN11/RB4 (io), 15 T1G/CPS5/AN13/RB5 (io), 16 ICSPCLK/RB6 (io), 17 ICSPDAT/RB7 (io), 18 VPP/~{MCLR}/RE3 (io), 19 ~{SS}/AN0/RA0 (io), 20 AN1/RA1 (io), 21 AN2/RA2 (io), 22 VREF/AN3/RA3 (io), 23 RA4/CPS6/T0CKI (io), 24 RA5/AN4/CPS7/~{SS} (io), 25 RE0/AN5 (io), 26 RE1/AN6 (io), 27 RE2/AN7 (io), 28 VDD (power), 29 VSS (power), 30 RA7/OSC1/CLKIN (io), 31 RA6/OSC2/CLKOUT (io), 32 RC0/T1OSO/T1CKI (io), 33 NC, 34 NC, 35 RC1/T1OSI/CCP2 (io), 36 RC2/CCP1 (io), 37 RC3/SCK/SCL (io), 38 RD0/CPS8 (io), 39 RD1/CPS9 (io), 40 RD2/CPS10 (io), 41 RD3/CPS11 (io), 42 RC4/SDI/SDA (io), 43 RC5/SDO (io), 44 RC6/TX/CK (io)

## PIC16LF727-I/ML
designator U?
Flash-Based, 8-Bit CMOS Microcontroller, 8K (x14-Bit words) Program Memory, 368 Bytes Data Memory, 36 I/O pins, 44-Pin QFN, Extended VDD Range, Industrial Temperature; Manufacturer: Microchip; PartNumber: PIC16LF727-I/ML; DatasheetVersion: revE, Oct-2009; PackageVersion: revBB, Aug-2009; PackageReference: QFN-ML44; PackageDescription: 44-Lead Plastic Quad Flat, No Lead Package (ML) - 8x8 mm Body [QFN]; Supplier 1: Digi-Key; Supplier Part Number 1: PIC16LF727-I/ML-ND; Supplier 2: Farnell; Supplier Part Number 2: 1770680; Supplier 3: Newark; Supplier Part Number 3: 07P9654; Supplier 4: Mouser; Supplier Part Number 4: 579-PIC16LF727-I/ML; Code_JEDEC: MO-220; Code_IPC: QFN65P800X800-44V2; ComponentLink1Description: Manufacturer URL; ComponentLink1URL: http://www.microchip.com/; ComponentLink2Description: Datasheet; ComponentLink2URL: http://ww1.microchip.com/downloads/en/DeviceDoc/41341E.pdf; ComponentLink3Description: Package Specification; ComponentLink3URL: http://www.microchip.com/stellent/groups/techpub_sg/documents/packagingspec/en012702.pdf
footprint QFN-ML44_N (QFN, 44-Leads, Body 8x8mm, Pitch 0.65mm, Thermal Pad 6.8x6.8mm, IPC Medium Density)
footprint QFN-ML44_L (QFN, 44-Leads, Body 8x8mm, Pitch 0.65mm, Thermal Pad 6.8x6.8mm, IPC High Density)
footprint QFN-ML44_M (QFN, 44-Leads, Body 8x8mm, Pitch 0.65mm, Thermal Pad 6.8x6.8mm, IPC Low Density)
pins: 1 DT/RX/RC7 (io), 2 CPS12/RD4 (io), 3 CPS13/RD5 (io), 4 CPS14/RD6 (io), 5 CPS15/RD7 (io), 6 VSS (power), 7 VDD (power), 8 VDD (power), 9 INT/CPS0/AN12/RB0 (io), 10 CPS1/AN10/RB1 (io), 11 CPS2/AN8/RB2 (io), 12 CCP2/CPS3/AN9/RB3 (io), 13 NC, 14 CPS4/AN11/RB4 (io), 15 T1G/CPS5/AN13/RB5 (io), 16 ICSPCLK/RB6 (io), 17 ICSPDAT/RB7 (io), 18 VPP/~{MCLR}/RE3 (io), 19 ~{SS}/AN0/RA0 (io), 20 AN1/RA1 (io), 21 AN2/RA2 (io), 22 VREF/AN3/RA3 (io), 23 RA4/CPS6/T0CKI (io), 24 RA5/AN4/CPS7/~{SS} (io), 25 RE0/AN5 (io), 26 RE1/AN6 (io), 27 RE2/AN7 (io), 28 VDD (power), 29 NC, 30 VSS (power), 31 VSS (power), 32 RA7/OSC1/CLKIN (io), 33 RA6/OSC2/CLKOUT (io), 34 RC0/T1OSO/T1CKI (io), 35 RC1/T1OSI/CCP2 (io), 36 RC2/CCP1 (io), 37 RC3/SCK/SCL (io), 38 RD0/CPS8 (io), 39 RD1/CPS9 (io), 40 RD2/CPS10 (io), 41 RD3/CPS11 (io), 42 RC4/SDI/SDA (io), 43 RC5/SDO (io), 44 RC6/TX/CK (io), 45 Thermal Pad

## PIC16LF727-I/P
designator U?
Flash-Based, 8-Bit CMOS Microcontroller, 8K (x14-Bit words) Program Memory, 368 Bytes Data Memory, 36 I/O pins, 40-Pin PDIP, Extended VDD Range, Industrial Temperature; Manufacturer: Microchip; PartNumber: PIC16LF727-I/P; DatasheetVersion: revE, Oct-2009; PackageVersion: revBB, Aug-2009; PackageReference: PDIP600-P40; PackageDescription: 40-Lead Plastic Dual In-Line (P) - 600 mil Body [PDIP]; Supplier 1: Digi-Key; Supplier Part Number 1: PIC16LF727-I/P-ND; Supplier 2: Newark; Supplier Part Number 2: 07P9655; Supplier 3: Mouser; Supplier Part Number 3: 579-PIC16LF727-I/P; ComponentLink1Description: Manufacturer URL; ComponentLink1URL: http://www.microchip.com/; ComponentLink2Description: Datasheet; ComponentLink2URL: http://ww1.microchip.com/downloads/en/DeviceDoc/41341E.pdf; ComponentLink3Description: Package Specification; ComponentLink3URL: http://www.microchip.com/stellent/groups/techpub_sg/documents/packagingspec/en012702.pdf
footprint PDIP600-P40 (DIP, 40-Leads, Row Spacing 15.24mm, Pitch 2.54mm, Body 51.8x13.5mm)
pins: 1 VPP/~{MCLR}/RE3 (io), 2 ~{SS}/AN0/RA0 (io), 3 AN1/RA1 (io), 4 AN2/RA2 (io), 5 VREF/AN3/RA3 (io), 6 T0CKI/CPS6/RA4 (io), 7 ~{SS}/CPS7/AN4/RA5 (io), 8 AN5/RE0 (io), 9 AN6/RE1 (io), 10 AN7/RE2 (io), 11 VDD (power), 12 VSS (power), 13 CLKIN/OSC1/RA7 (io), 14 CLKOUT/OSC2/RA6 (io), 15 T1CKI/T1OSO/RC0 (io), 16 CCP2/T1OSI/RC1 (io), 17 CCP1/RC2 (io), 18 SCL/SCK/RC3 (io), 19 CPS8/RD0 (io), 20 CPS9/RD1 (io), 21 RD2/CPS10 (io), 22 RD3/CPS11 (io), 23 RC4/SDI/SDA (io), 24 RC5/SDO (io), 25 RC6/TX/CK (io), 26 RC7/RX/DT (io), 27 RD4/CPS12 (io), 28 RD5/CPS13 (io), 29 RD6/CPS14 (io), 30 RD7/CPS15 (io), 31 VSS (power), 32 VDD (power), 33 RB0/AN12/CPS0/INT (io), 34 RB1/AN10/CPS1 (io), 35 RB2/AN8/CPS2 (io), 36 RB3/AN9/CPS3/CCP2 (io), 37 RB4/AN11/CPS4 (io), 38 RB5/AN13/CPS5/T1G (io), 39 RB6/ICSPCLK (io), 40 RB7/ICSPDAT (io)

## PIC16LF727-I/PT
designator U?
Flash-Based, 8-Bit CMOS Microcontroller, 8K (x14-Bit words) Program Memory, 368 Bytes Data Memory, 36 I/O pins, 44-Pin TQFP, Extended VDD Range, Industrial Temperature; Manufacturer: Microchip; PartNumber: PIC16LF727-I/PT; DatasheetVersion: revE, Oct-2009; PackageVersion: revBB, Aug-2009; PackageReference: TQFP-PT44; PackageDescription: 44-Lead Plastic Thin Quad Flatpack (PT) - 10x10x1mm Body, 2.00mm [TQFP]; Supplier 1: Digi-Key; Supplier Part Number 1: PIC16LF727-I/PT-ND; Supplier 2: Farnell; Supplier Part Number 2: 1659769; Supplier 3: Farnell; Supplier Part Number 3: 1659769MPKG; Supplier 4: Newark; Supplier Part Number 4: 07P9656; Supplier 5: Mouser; Supplier Part Number 5: 579-PIC16LF727-I/PT; Code_JEDEC: MS-026; ComponentLink1Description: Manufacturer URL; ComponentLink1URL: http://www.microchip.com/; ComponentLink2Description: Datasheet; ComponentLink2URL: http://ww1.microchip.com/downloads/en/DeviceDoc/41341E.pdf; ComponentLink3Description: Package Specification; ComponentLink3URL: http://www.microchip.com/stellent/groups/techpub_sg/documents/packagingspec/en012702.pdf
footprint TQFP-PT44_N (Thin QFP, 44-Leads, Body 10x10mm, Pitch 0.8mm, IPC Medium Density)
footprint TQFP-PT44_L (Thin QFP, 44-Leads, Body 10x10mm, Pitch 0.8mm, IPC High Density)
footprint TQFP-PT44_M (Thin QFP, 44-Leads, Body 10x10mm, Pitch 0.8mm, IPC Low Density)
pins: 1 DT/RX/RC7 (io), 2 CPS12/RD4 (io), 3 CPS13/RD5 (io), 4 CPS14/RD6 (io), 5 CPS15/RD7 (io), 6 VSS (power), 7 VDD (power), 8 INT/CPS0/AN12/RB0 (io), 9 CPS1/AN10/RB1 (io), 10 CPS2/AN8/RB2 (io), 11 CCP2/CPS3/AN9/RB3 (io), 12 NC, 13 NC, 14 CPS4/AN11/RB4 (io), 15 T1G/CPS5/AN13/RB5 (io), 16 ICSPCLK/RB6 (io), 17 ICSPDAT/RB7 (io), 18 VPP/~{MCLR}/RE3 (io), 19 ~{SS}/AN0/RA0 (io), 20 AN1/RA1 (io), 21 AN2/RA2 (io), 22 VREF/AN3/RA3 (io), 23 RA4/CPS6/T0CKI (io), 24 RA5/AN4/CPS7/~{SS} (io), 25 RE0/AN5 (io), 26 RE1/AN6 (io), 27 RE2/AN7 (io), 28 VDD (power), 29 VSS (power), 30 RA7/OSC1/CLKIN (io), 31 RA6/OSC2/CLKOUT (io), 32 RC0/T1OSO/T1CKI (io), 33 NC, 34 NC, 35 RC1/T1OSI/CCP2 (io), 36 RC2/CCP1 (io), 37 RC3/SCK/SCL (io), 38 RD0/CPS8 (io), 39 RD1/CPS9 (io), 40 RD2/CPS10 (io), 41 RD3/CPS11 (io), 42 RC4/SDI/SDA (io), 43 RC5/SDO (io), 44 RC6/TX/CK (io)

## PIC16LF727T-I/ML
designator U?
Flash-Based, 8-Bit CMOS Microcontroller, 8K (x14-Bit words) Program Memory, 368 Bytes Data Memory, 36 I/O pins, 44-Pin QFN, Extended VDD Range, Industrial Temperature, Tape and Reel; Manufacturer: Microchip; PartNumber: PIC16LF727T-I/ML; DatasheetVersion: revE, Oct-2009; PackageVersion: revBB, Aug-2009; PackageReference: QFN-ML44; PackageDescription: 44-Lead Plastic Quad Flat, No Lead Package (ML) - 8x8 mm Body [QFN]; Supplier 1: Digi-Key; Supplier Part Number 1: PIC16LF727T-I/ML-ND; Supplier 2: Mouser; Supplier Part Number 2: 579-PIC16LF727T-I/ML; Code_JEDEC: MO-220; Code_IPC: QFN65P800X800-44V2; ComponentLink1Description: Manufacturer URL; ComponentLink1URL: http://www.microchip.com/; ComponentLink2Description: Datasheet; ComponentLink2URL: http://ww1.microchip.com/downloads/en/DeviceDoc/41341E.pdf; ComponentLink3Description: Package Specification; ComponentLink3URL: http://www.microchip.com/stellent/groups/techpub_sg/documents/packagingspec/en012702.pdf
footprint QFN-ML44_N (QFN, 44-Leads, Body 8x8mm, Pitch 0.65mm, Thermal Pad 6.8x6.8mm, IPC Medium Density)
footprint QFN-ML44_L (QFN, 44-Leads, Body 8x8mm, Pitch 0.65mm, Thermal Pad 6.8x6.8mm, IPC High Density)
footprint QFN-ML44_M (QFN, 44-Leads, Body 8x8mm, Pitch 0.65mm, Thermal Pad 6.8x6.8mm, IPC Low Density)
pins: 1 DT/RX/RC7 (io), 2 CPS12/RD4 (io), 3 CPS13/RD5 (io), 4 CPS14/RD6 (io), 5 CPS15/RD7 (io), 6 VSS (power), 7 VDD (power), 8 VDD (power), 9 INT/CPS0/AN12/RB0 (io), 10 CPS1/AN10/RB1 (io), 11 CPS2/AN8/RB2 (io), 12 CCP2/CPS3/AN9/RB3 (io), 13 NC, 14 CPS4/AN11/RB4 (io), 15 T1G/CPS5/AN13/RB5 (io), 16 ICSPCLK/RB6 (io), 17 ICSPDAT/RB7 (io), 18 VPP/~{MCLR}/RE3 (io), 19 ~{SS}/AN0/RA0 (io), 20 AN1/RA1 (io), 21 AN2/RA2 (io), 22 VREF/AN3/RA3 (io), 23 RA4/CPS6/T0CKI (io), 24 RA5/AN4/CPS7/~{SS} (io), 25 RE0/AN5 (io), 26 RE1/AN6 (io), 27 RE2/AN7 (io), 28 VDD (power), 29 NC, 30 VSS (power), 31 VSS (power), 32 RA7/OSC1/CLKIN (io), 33 RA6/OSC2/CLKOUT (io), 34 RC0/T1OSO/T1CKI (io), 35 RC1/T1OSI/CCP2 (io), 36 RC2/CCP1 (io), 37 RC3/SCK/SCL (io), 38 RD0/CPS8 (io), 39 RD1/CPS9 (io), 40 RD2/CPS10 (io), 41 RD3/CPS11 (io), 42 RC4/SDI/SDA (io), 43 RC5/SDO (io), 44 RC6/TX/CK (io), 45 Thermal Pad

## PIC16LF727T-I/PT
designator U?
Flash-Based, 8-Bit CMOS Microcontroller, 8K (x14-Bit words) Program Memory, 368 Bytes Data Memory, 36 I/O pins, 44-Pin TQFP, Extended VDD Range, Industrial Temperature, Tape and Reel; Manufacturer: Microchip; PartNumber: PIC16LF727T-I/PT; DatasheetVersion: revE, Oct-2009; PackageVersion: revBB, Aug-2009; PackageReference: TQFP-PT44; PackageDescription: 44-Lead Plastic Thin Quad Flatpack (PT) - 10x10x1mm Body, 2.00mm [TQFP]; Supplier 1: Digi-Key; Supplier Part Number 1: PIC16LF727T-I/PT-ND; Supplier 2: Mouser; Supplier Part Number 2: 579-PIC16LF727T-I/PT; Code_JEDEC: MS-026; ComponentLink1Description: Manufacturer URL; ComponentLink1URL: http://www.microchip.com/; ComponentLink2Description: Datasheet; ComponentLink2URL: http://ww1.microchip.com/downloads/en/DeviceDoc/41341E.pdf; ComponentLink3Description: Package Specification; ComponentLink3URL: http://www.microchip.com/stellent/groups/techpub_sg/documents/packagingspec/en012702.pdf
footprint TQFP-PT44_N (Thin QFP, 44-Leads, Body 10x10mm, Pitch 0.8mm, IPC Medium Density)
footprint TQFP-PT44_L (Thin QFP, 44-Leads, Body 10x10mm, Pitch 0.8mm, IPC High Density)
footprint TQFP-PT44_M (Thin QFP, 44-Leads, Body 10x10mm, Pitch 0.8mm, IPC Low Density)
pins: 1 DT/RX/RC7 (io), 2 CPS12/RD4 (io), 3 CPS13/RD5 (io), 4 CPS14/RD6 (io), 5 CPS15/RD7 (io), 6 VSS (power), 7 VDD (power), 8 INT/CPS0/AN12/RB0 (io), 9 CPS1/AN10/RB1 (io), 10 CPS2/AN8/RB2 (io), 11 CCP2/CPS3/AN9/RB3 (io), 12 NC, 13 NC, 14 CPS4/AN11/RB4 (io), 15 T1G/CPS5/AN13/RB5 (io), 16 ICSPCLK/RB6 (io), 17 ICSPDAT/RB7 (io), 18 VPP/~{MCLR}/RE3 (io), 19 ~{SS}/AN0/RA0 (io), 20 AN1/RA1 (io), 21 AN2/RA2 (io), 22 VREF/AN3/RA3 (io), 23 RA4/CPS6/T0CKI (io), 24 RA5/AN4/CPS7/~{SS} (io), 25 RE0/AN5 (io), 26 RE1/AN6 (io), 27 RE2/AN7 (io), 28 VDD (power), 29 VSS (power), 30 RA7/OSC1/CLKIN (io), 31 RA6/OSC2/CLKOUT (io), 32 RC0/T1OSO/T1CKI (io), 33 NC, 34 NC, 35 RC1/T1OSI/CCP2 (io), 36 RC2/CCP1 (io), 37 RC3/SCK/SCL (io), 38 RD0/CPS8 (io), 39 RD1/CPS9 (io), 40 RD2/CPS10 (io), 41 RD3/CPS11 (io), 42 RC4/SDI/SDA (io), 43 RC5/SDO (io), 44 RC6/TX/CK (io)

## PIC16LF737-I/ML
designator U?
8-Bit CMOS FLASH Microcontroller with 10-Bit A/D and nanoWatt Technology, 4K (x14-Bit words) FLASH, 368 Bytes SRAM, 28-Pin QFN, Extended VDD Range, Industrial Temperature; Manufacturer: Microchip; PartNumber: PIC16LF737-I/ML; Note: RB3 is the alternate pin for the CCP2 pin multiplexing.; DatasheetVersion: revC, Oct-2004; PackageVersion: revBB, Aug-2009; PackageReference: QFN-ML28; PackageDescription: 28-Lead Plastic Quad Flat, No Lead Package (ML) - 6x6 mm Body [QFN] with 0.55 mm Contact Length; Supplier 1: Digi-Key; Supplier Part Number 1: PIC16LF737-I/ML-ND; Supplier 2: Farnell; Supplier Part Number 2: 2318321; Supplier 3: Newark; Supplier Part Number 3: 61H5213; Supplier 4: Mouser; Supplier Part Number 4: 579-PIC16LF737-I/ML; Code_JEDEC: MO-220; ComponentLink1Description: Manufacturer URL; ComponentLink1URL: http://www.microchip.com/; ComponentLink2Description: Datasheet; ComponentLink2URL: http://ww1.microchip.com/downloads/en/DeviceDoc/30498c.pdf; ComponentLink3Description: Package Specification; ComponentLink3URL: http://www.microchip.com/stellent/groups/techpub_sg/documents/packagingspec/en012702.pdf
footprint QFN-ML28_N (QFN, 28-Leads, Body 6x6mm, Pitch 0.65mm, Thermal Pad 4.2x4.2mm, IPC Medium Density)
footprint QFN-ML28_L (QFN, 28-Leads, Body 6x6mm, Pitch 0.65mm, Thermal Pad 4.2x4.2mm, IPC High Density)
footprint QFN-ML28_M (QFN, 28-Leads, Body 6x6mm, Pitch 0.65mm, Thermal Pad 4.2x4.2mm, IPC Low Density)
pins: 1 RA2/AN2/VREF-/CVREF (io), 2 RA3/AN3/VREF+ (io), 3 RA4/T0CKI/C1OUT (io), 4 RA5/AN4/LVDIN/~{SS}/C2OUT (io), 5 VSS (power), 6 OSC1/CLKI/RA7 (io), 7 OSC2/CLKO/RA6 (io), 8 RC0/T1OSO/T1CKI (io), 9 RC1/T1OSI/CCP2 (io), 10 RC2/CCP1 (io), 11 RC3/SCK/SCL (io), 12 RC4/SDI/SDA (io), 13 RC5/SDO (io), 14 RC6/TX/CK (io), 15 RC7/RX/DT (io), 16 VSS (power), 17 VDD (power), 18 RB0/INT/AN12 (io), 19 RB1/AN10 (io), 20 RB2/AN8 (io), 21 RB3/CCP2/AN9 (io), 22 RB4/AN11 (io), 23 RB5/AN13/CCP3 (io), 24 RB6/PGC (io), 25 RB7/PGD (io), 26 ~{MCLR}/VPP/RE3 (io), 27 RA0/AN0 (io), 28 RA1/AN1 (io), 29 Thermal Pad

## PIC16LF737-I/SO
designator U?
8-Bit CMOS FLASH Microcontroller with 10-Bit A/D and nanoWatt Technology, 4K (x14-Bit words) FLASH, 368 Bytes SRAM, 28-Pin SOIC, Extended VDD Range, Industrial Temperature; Manufacturer: Microchip; PartNumber: PIC16LF737-I/SO; Note: RB3 is the alternate pin for the CCP2 pin multiplexing.; DatasheetVersion: revC, Oct-2004; PackageVersion: revBB, Aug-2009; PackageReference: SOIC-SO28; PackageDescription: 28-Lead Plastic Small Outline (SO) - Wide 7.50mm Body [SOIC]; Supplier 1: Digi-Key; Supplier Part Number 1: PIC16LF737-I/SO-ND; Supplier 2: Mouser; Supplier Part Number 2: 579-PIC16LF737-I/SO; Code_JEDEC: MS-013; ComponentLink1Description: Manufacturer URL; ComponentLink1URL: http://www.microchip.com/; ComponentLink2Description: Datasheet; ComponentLink2URL: http://ww1.microchip.com/downloads/en/DeviceDoc/30498c.pdf; ComponentLink3Description: Package Specification; ComponentLink3URL: http://www.microchip.com/stellent/groups/techpub_sg/documents/packagingspec/en012702.pdf
footprint SOIC-SO28_N (SOIC, 28-Leads, Body 17.9x7.5mm, Pitch 1.27mm, IPC Medium Density)
footprint SOIC-SO28_L (SOIC, 28-Leads, Body 17.9x7.5mm, Pitch 1.27mm, IPC High Density)
footprint SOIC-SO28_M (SOIC, 28-Leads, Body 17.9x7.5mm, Pitch 1.27mm, IPC Low Density)
pins: 1 ~{MCLR}/VPP/RE3 (io), 2 RA0/AN0 (io), 3 RA1/AN1 (io), 4 RA2/AN2/VREF-/CVREF (io), 5 RA3/AN3/VREF+ (io), 6 RA4/T0CKI/C1OUT (io), 7 RA5/AN4/LVDIN/~{SS}/C2OUT (io), 8 VSS (power), 9 OSC1/CLKI/RA7 (io), 10 OSC2/CLKO/RA6 (io), 11 RC0/T1OSO/T1CKI (io), 12 RC1/T1OSI/CCP2 (io), 13 RC2/CCP1 (io), 14 RC3/SCK/SCL (io), 15 RC4/SDI/SDA (io), 16 RC5/SDO (io), 17 RC6/TX/CK (io), 18 RC7/RX/DT (io), 19 VSS (power), 20 VDD (power), 21 RB0/INT/AN12 (io), 22 RB1/AN10 (io), 23 RB2/AN8 (io), 24 RB3/CCP2/AN9 (io), 25 RB4/AN11 (io), 26 RB5/AN13/CCP3 (io), 27 RB6/PGC (io), 28 RB7/PGD (io)